# EAGLE library part PRISM_LINK (library ElectricNoodleBox)
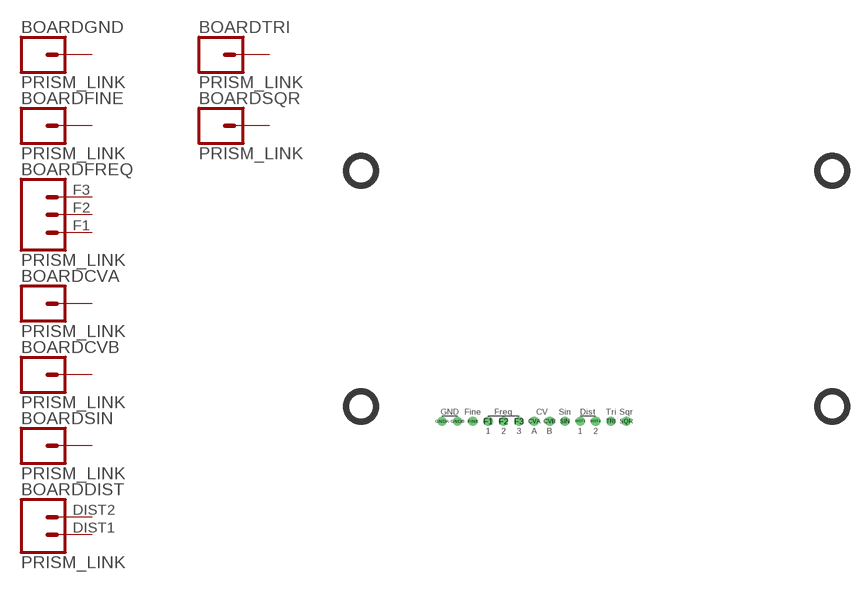
[diagram p20: symbol with the pads of PRISM; footprint PRISM]

Designator prefix BOARD; gates GND=CONN_01 FINE=CONN_01 FREQ=CONN_03 CVA=CONN_01 CVB=CONN_01 SIN=CONN_01 DIST=CONN_02 TRI=CONN_01 SQR=CONN_01

## PRISM_LINK  [PRISM]
CVA  CVA:1  pas
CVB  CVB:1  pas
DIST1  DIST:1  pas
DIST2  DIST:2  pas
F1  FREQ:1  pas
F2  FREQ:2  pas
F3  FREQ:3  pas
FINE  FINE:1  pas
GNDA  GND:1  pas
GNDB  GND:1  pas
SIN  SIN:1  pas
SQR  SQR:1  pas
TRI  TRI:1  pas

## Footprint PRISM (pad centres in mm)
drill 1.016: CVA 33.67,2.54; CVB 36.21,2.54; DIST1 41.29,2.54; DIST2 43.83,2.54; F1 26.05,2.54; F2 28.59,2.54; F3 31.13,2.54; FINE 23.51,2.54; GNDA 18.43,2.54; GNDB 20.97,2.54; SIN 38.75,2.54; SQR 48.91,2.54; TRI 46.37,2.54
hole 4 at 5,5
hole 4 at 83,5
hole 4 at 83,44
hole 4 at 5,44